# EAGLE library part DIL68 (library RTC-module)
Dual In Line
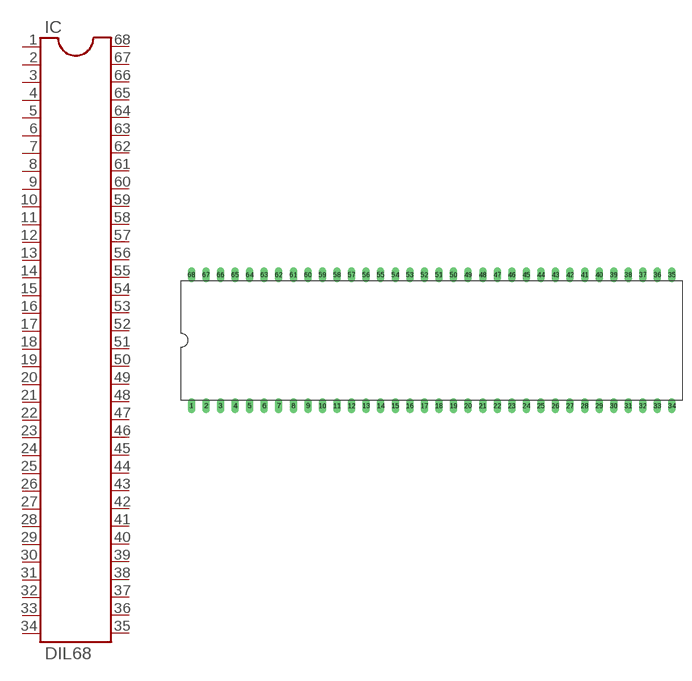
[diagram p4: symbol with the pads of DIL68; footprint DIL68]

Designator prefix IC

## DIL68  [DIL68]
1  1  pas
2  2  pas
3  3  pas
4  4  pas
5  5  pas
6  6  pas
7  7  pas
8  8  pas
9  9  pas
10  10  pas
11  11  pas
12  12  pas
13  13  pas
14  14  pas
15  15  pas
16  16  pas
17  17  pas
18  18  pas
19  19  pas
20  20  pas
21  21  pas
22  22  pas
23  23  pas
24  24  pas
25  25  pas
26  26  pas
27  27  pas
28  28  pas
29  29  pas
30  30  pas
31  31  pas
32  32  pas
33  33  pas
34  34  pas
35  35  pas
36  36  pas
37  37  pas
38  38  pas
39  39  pas
40  40  pas
41  41  pas
42  42  pas
43  43  pas
44  44  pas
45  45  pas
46  46  pas
47  47  pas
48  48  pas
49  49  pas
50  50  pas
51  51  pas
52  52  pas
53  53  pas
54  54  pas
55  55  pas
56  56  pas
57  57  pas
58  58  pas
59  59  pas
60  60  pas
61  61  pas
62  62  pas
63  63  pas
64  64  pas
65  65  pas
66  66  pas
67  67  pas
68  68  pas

## Footprint DIL68 (pad centres in mm)
Dual In Line
drill 0.813 long: 1 -41.91,-11.43; 2 -39.37,-11.43; 3 -36.83,-11.43; 4 -34.29,-11.43; 5 -31.75,-11.43; 6 -29.21,-11.43; 7 -26.67,-11.43; 8 -24.13,-11.43; 9 -21.59,-11.43; 10 -19.05,-11.43; 11 -16.51,-11.43; 12 -13.97,-11.43; 13 -11.43,-11.43; 14 -8.89,-11.43; 15 -6.35,-11.43; 16 -3.81,-11.43; 17 -1.27,-11.43; 18 1.27,-11.43; 19 3.81,-11.43; 20 6.35,-11.43; 21 8.89,-11.43; 22 11.43,-11.43; 23 13.97,-11.43; 24 16.51,-11.43; 25 19.05,-11.43; 26 21.59,-11.43; 27 24.13,-11.43; 28 26.67,-11.43; 29 29.21,-11.43; 30 31.75,-11.43; 31 34.29,-11.43; 32 36.83,-11.43; 33 39.37,-11.43; 34 41.91,-11.43; 35 41.91,11.43; 36 39.37,11.43; 37 36.83,11.43; 38 34.29,11.43; 39 31.75,11.43; 40 29.21,11.43; 41 26.67,11.43; 42 24.13,11.43; 43 21.59,11.43; 44 19.05,11.43; 45 16.51,11.43; 46 13.97,11.43; 47 11.43,11.43; 48 8.89,11.43; 49 6.35,11.43; 50 3.81,11.43; 51 1.27,11.43; 52 -1.27,11.43; 53 -3.81,11.43; 54 -6.35,11.43; 55 -8.89,11.43; 56 -11.43,11.43; 57 -13.97,11.43; 58 -16.51,11.43; 59 -19.05,11.43; 60 -21.59,11.43; 61 -24.13,11.43; 62 -26.67,11.43; 63 -29.21,11.43; 64 -31.75,11.43; 65 -34.29,11.43; 66 -36.83,11.43; 67 -39.37,11.43; 68 -41.91,11.43